# Altium footprint library PcbLib2.PcbLib: 8 footprints
Each footprint in its own frame and in the unit in brackets; x right, y up, seen from the top. Pads: shape width x height; smd on the part's side, far side on the other; paste and mask are expansions set on the pad; w line width, h text height; cw(c..) or ccw(c..) is an arc to the next point about the centre after c.
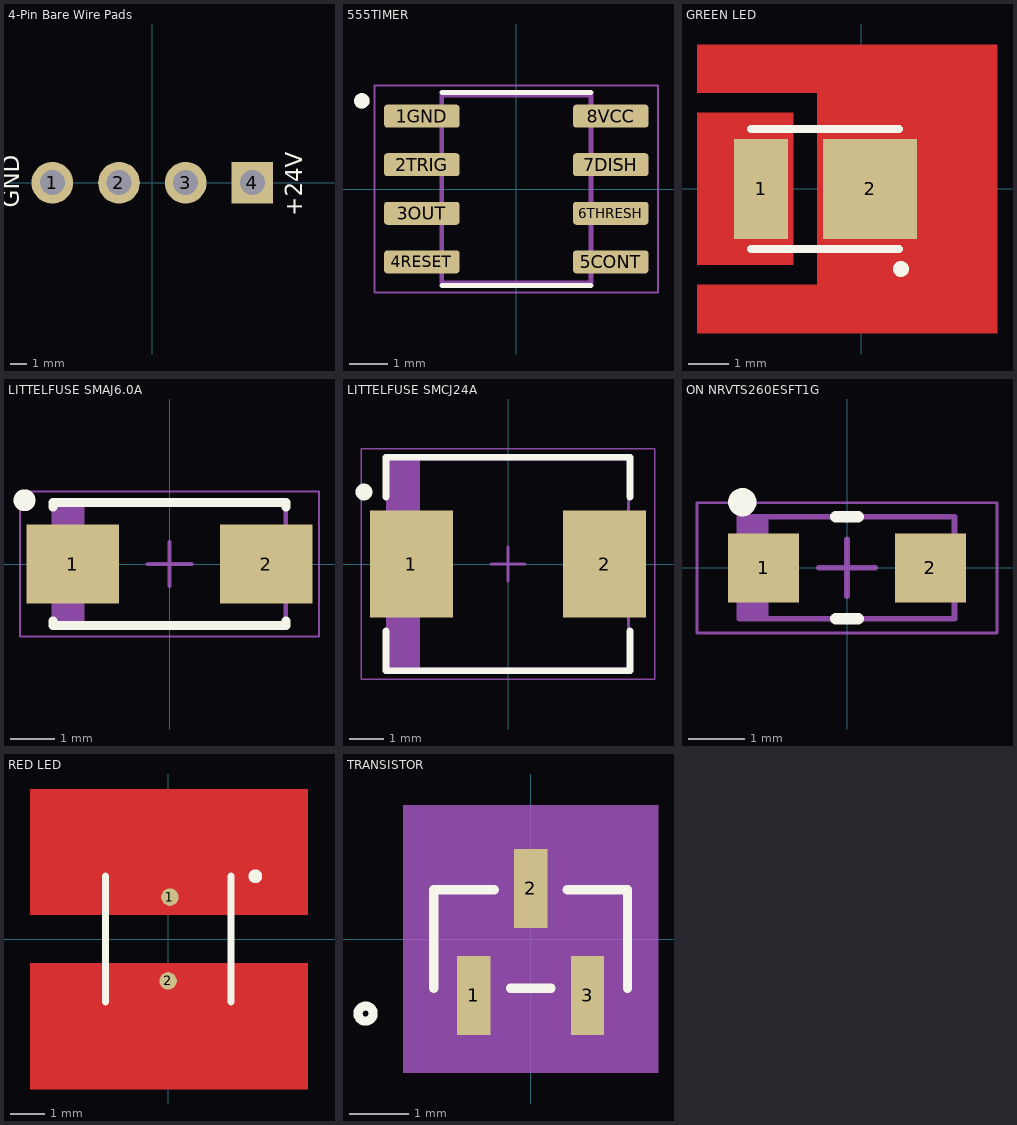
[diagram p0: the footprints below, top view; thin cyan lines are the x and y axes]

## 4-Pin Bare Wire Pads [mm] "4-Pin Bare Wire Pads"
pads (4):
  round 2.5 hole 1.5: 1(-6,0) 2(-2,0) 3(2,0)
  rect 2.5x2.5 hole 1.5: 4(6,0)
Top Overlay:
  text "+24V" at 9,-2 h1
  text "GND" at -8,-1.5 h1

## 555TIMER [mm]
pads (8):
  rrect25% 1.97x0.6 smd: 1GND(-2.47,1.905) 2TRIG(-2.47,0.635) 3OUT(-2.47,-0.635) 4RESET(-2.47,-1.905) 5CONT(2.47,-1.905) 6THRESH(2.47,-0.635) 7DISH(2.47,0.635) 8VCC(2.47,1.905)
Top Overlay:
  circle w0.2: c-4.04,2.305 r0.1
  lines w0.127: -1.95,-2.525 1.95,-2.525 ; -1.95,2.525 1.95,2.525
Mechanical 13:
  circle w0.2: c-4.04,2.305 r0.1
  lines w0.127: -1.95,-2.452 -1.95,2.452 1.95,2.452 1.95,-2.452 -1.95,-2.452
Mechanical 15:
  lines w0.05: -3.705,-2.702 -3.705,2.702 3.705,2.702 3.705,-2.702 -3.705,-2.702
3D body "step_temp.STEP": height 1.75, standoff 0, extent -2.997,-2.578 2.997,2.324

## GREEN LED [mm]
pads (2):
  rect 1.35x2.5 smd: 1(-2.5,0)
  rect 2.35x2.5 smd: 2(0.225,0)
Top Layer:
  region: -4.1,-3.6 -4.1,-2.4 -1.1,-2.4 -1.1,-1.25 -1.1,1.25 -1.1,2.4 -4.1,2.4 -4.1,3.6 3.4,3.6 3.4,-3.6
  region: -4.1,-1.9 -1.7,-1.9 -1.7,-1.25 -1.7,1.25 -1.7,1.9 -4.1,1.9
Top Overlay:
  circle w0.254: c1,-2 r0.071
  lines w0.2: -2.75,-1.5 0.95,-1.5 ; -2.75,1.5 0.95,1.5
3D body "Green LED.STEP": height 0.81, standoff 0.01, extent -2.65,-1.35 0.85,1.45

## LITTELFUSE SMAJ6.0A [mm] "TVS DIODE 6V 10.3V DO214AC"
height 2.29
pads (2):
  rect 2.1x1.8 smd: 1(-2.2,0) 2(2.2,0)
Top Overlay:
  circle w0.25: c-3.3,1.45 r0.125
  lines w0.2: -2.65,-1.3 -2.65,-1.4 2.65,-1.4 2.65,-1.3 ; -2.65,1.3 -2.65,1.4 2.65,1.4 2.65,1.3
Mechanical 13:
  rectangle: -2.64,-1.395 -1.93,1.395
  lines w0.1: -2.64,-1.395 -2.64,1.395 2.64,1.395 2.64,-1.395 -2.64,-1.395
Mechanical 15:
  lines w0.05: -3.4,-1.65 -3.4,1.65 3.4,1.65 3.4,-1.65 -3.4,-1.65
  lines w0.1: -0.5,0 0.5,0 ; 0,-0.5 0,0.5
3D body "LITTELFUSE SMAJ6.0A.step": height 2.29, standoff 0, extent -2.86,-1.395 2.86,1.395

## LITTELFUSE SMCJ24A [mm] "TVS DIODE 24V 38.9V DO214AB"
height 2.62
pads (2):
  rect 2.45x3.15 smd: 1(-2.85,0) 2(2.85,0)
Top Overlay:
  circle w0.25: c-4.25,2.125 r0.125
  lines w0.2: -3.6,-1.975 -3.6,-3.15 3.6,-3.15 3.6,-1.975 ; -3.6,1.975 -3.6,3.15 3.6,3.15 3.6,1.975
Mechanical 13:
  rectangle: -3.555,-3.11 -2.599,3.11
  lines w0.1: -3.555,-3.11 -3.555,3.11 3.555,3.11 3.555,-3.11 -3.555,-3.11
Mechanical 15:
  lines w0.05: -4.325,-3.4 -4.325,3.4 4.325,3.4 4.325,-3.4 -4.325,-3.4
  lines w0.1: -0.5,0 0.5,0 ; 0,-0.5 0,0.5
3D body "LITTELFUSE SMCJ24A.step": height 2.62, standoff 0, extent -3.775,-3.11 3.775,3.11

## ON NRVTS260ESFT1G [mm] "DIODE SCHOTTKY 60V 2A SOD123FL"
height 0.98
pads (2):
  rect 1.25x1.22 smd: 1(-1.475,0) 2(1.475,0)
Top Overlay:
  circle w0.25: c-1.85,1.16 r0.125
  lines w0.2: -0.2,-0.9 0.2,-0.9 ; -0.2,0.9 0.2,0.9
Mechanical 13:
  rectangle: -1.9,-0.9 -1.389,0.9
  lines w0.1: -1.9,-0.9 1.9,-0.9 1.9,0.9 -1.9,0.9 -1.9,-0.9
Mechanical 15:
  lines w0.05: -2.65,-1.15 2.65,-1.15 2.65,1.15 -2.65,1.15 -2.65,-1.15
  lines w0.1: -0.5,0 0.5,0 ; 0,-0.5 0,0.5
3D body "ON NRVTS260ESFT1G.step": height 0.98, standoff 0, extent -2.12,-0.9 2.12,0.9

## RED LED [mm]
pads (2):
  round 0.5 smd: 1(0.05,1.2) 2(0,-1.2)
Top Layer:
  region: -1.4,0.7 -1.4,1.7 -0.5,1.7 -0.5,2.5 0.5,2.5 0.5,1.7 1.4,1.7 1.4,0.7
  region: -1.4,-0.7 -1.4,-1.7 -0.5,-1.7 -0.5,-2.5 0.5,-2.5 0.5,-1.7 1.4,-1.7 1.4,-0.7
  region: 4,-0.7 4,-4.3 -3.95,-4.3 -3.95,-0.7
  region: 4,0.7 4,4.3 -3.95,4.3 -3.95,0.7
Top Overlay:
  circle w0.254: c2.5,1.8 r0.071
  lines w0.2: -1.8,-1.8 -1.8,1.8 ; 1.8,-1.8 1.8,1.8
3D body "OVS5MxBCR4.STEP": height 1.26, standoff 0.01, extent -1.8,-1.863 1.7,1.764

## TRANSISTOR [mil]
pads (3):
  rect 22x52 smd paste+3.86 mask+4: 1(-37.5,-37.21) 2(0,33.36) 3(37.5,-37.21)
Top Overlay:
  circle w6: c-109,-49.21 r5
  lines w6: -64,-32.5 -64,32.5 -24.1,32.5 ; -13.4,-32.5 13.4,-32.5 ; 24.1,32.5 64,32.5 64,-32.5
Mechanical 5:
  region: -84,88.21 84,88.21 84,-88.21 -84,-88.21
Mechanical 13:
  circle w0: c-49,-17.5 r5
  lines w1: -59,-27.5 59,-27.5 59,27.5 -59,27.5 -59,-27.5 ; -47.5,-49.21 -47.5,-27.5 -27.5,-27.5 -27.5,-49.21 -47.5,-49.21 ; -10,27.5 10,27.5 10,49.21 -10,49.21 -10,27.5 ; 27.5,-49.21 27.5,-27.5 47.5,-27.5 47.5,-49.21 27.5,-49.21
Mechanical 15:
  region: -69,-37.5 -69,37.5 -21,37.5 -21,73.21 21,73.21 21,37.5 69,37.5 69,-37.5 58.5,-37.5 58.5,-73.21 -58.5,-73.21 -58.5,-37.5
  region: 59,-27.5 -59,-27.5 -59,27.5 59,27.5
  lines w6: -69,-37.5 -69,37.5 -21,37.5 -21,73.21 21,73.21 21,37.5 69,37.5 69,-37.5 58.5,-37.5 58.5,-73.21 -58.5,-73.21 -58.5,-37.5 -69,-37.5
3D body "TRANS_SST2222AHZGT1_ROM.step": height 47.09, standoff 0, extent -60.98,-50.98 60.99,50.99
3D body: height 10, standoff 0, extent 0,0 10,10